# Altium footprint library FK750M1模块-封装库-V1.1.PcbLib: 1 footprints
Each footprint in its own frame and in the unit in brackets; x right, y up, seen from the top. Pads: shape width x height; smd on the part's side, far side on the other; paste and mask are expansions set on the pad; w line width, h text height; cw(c..) or ccw(c..) is an arc to the next point about the centre after c.
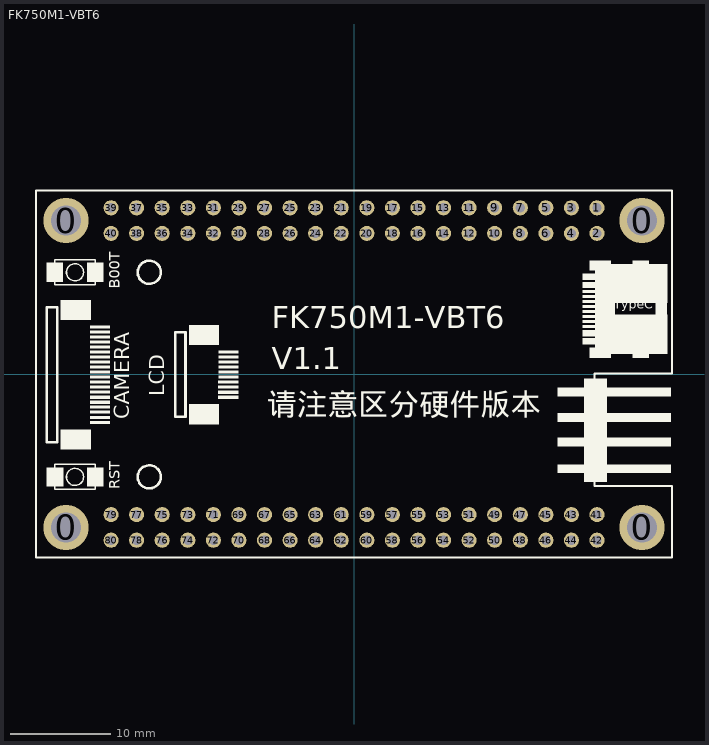
[diagram p0: the footprint, top view; thin cyan lines are the x and y axes]

## FK750M1-VBT6 [mm]
pads (84):
  round 4.5 hole 3: 0(-28.603,-15.24) 0(-28.603,15.24) 0(28.603,-15.24) 0(28.603,15.24)
  round 1.5 hole 0.9: 1(24.13,16.51) 2(24.13,13.97) 3(21.59,16.51) 4(21.59,13.97) 5(19.05,16.51) 6(19.05,13.97) 7(16.51,16.51) 8(16.51,13.97) 9(13.97,16.51) 10(13.97,13.97) 11(11.43,16.51) 12(11.43,13.97) 13(8.89,16.51) 14(8.89,13.97) 15(6.35,16.51) 16(6.35,13.97) 17(3.81,16.51) 18(3.81,13.97) 19(1.27,16.51) 20(1.27,13.97) 21(-1.27,16.51) 22(-1.27,13.97) 23(-3.81,16.51) 24(-3.81,13.97) 25(-6.35,16.51) 26(-6.35,13.97) 27(-8.89,16.51) 28(-8.89,13.97) 29(-11.43,16.51) 30(-11.43,13.97) 31(-13.97,16.51) 32(-13.97,13.97) 33(-16.51,16.51) 34(-16.51,13.97) 35(-19.05,16.51) 36(-19.05,13.97) 37(-21.59,16.51) 38(-21.59,13.97) 39(-24.13,16.51) 40(-24.13,13.97) 41(24.13,-13.97) 42(24.13,-16.51) 43(21.59,-13.97) 44(21.59,-16.51) 45(19.05,-13.97) 46(19.05,-16.51) 47(16.51,-13.97) 48(16.51,-16.51) 49(13.97,-13.97) 50(13.97,-16.51) 51(11.43,-13.97) 52(11.43,-16.51) 53(8.89,-13.97) 54(8.89,-16.51) 55(6.35,-13.97) 56(6.35,-16.51) 57(3.81,-13.97) 58(3.81,-16.51) 59(1.27,-13.97) 60(1.27,-16.51) 61(-1.27,-13.97) 62(-1.27,-16.51) 63(-3.81,-13.97) 64(-3.81,-16.51) 65(-6.35,-13.97) 66(-6.35,-16.51) 67(-8.89,-13.97) 68(-8.89,-16.51) 69(-11.43,-13.97) 70(-11.43,-16.51) 71(-13.97,-13.97) 72(-13.97,-16.51) 73(-16.51,-13.97) 74(-16.51,-16.51) 75(-19.05,-13.97) 76(-19.05,-16.51) 77(-21.59,-13.97) 78(-21.59,-16.51) 79(-24.13,-13.97) 80(-24.13,-16.51)
Top Overlay:
  circle w0.254: c-20.339,-10.219 r1.15
  circle w0.254: c-20.339,10.101 r1.149
  circle w0.15: c-27.709,10.101 r0.85
  circle w0.15: c-27.709,-10.219 r0.85
  rectangle: 20.193,-9.855 31.496,-8.966
  rectangle: 20.193,-7.188 31.496,-6.299
  rectangle: 20.193,-4.775 31.496,-3.886
  rectangle: 20.193,-2.235 31.496,-1.346
  rectangle: 22.86,-10.744 25.146,-0.457
  rectangle: 23.393,10.3 25.527,11.29
  rectangle: 27.648,10.304 29.273,11.29
  rectangle: 23.393,1.613 25.527,2.642
  rectangle: 27.648,1.613 29.273,2.743
  rectangle: 29.934,5.601 31.064,7.353
  rectangle: 23.939,5.728 25.933,7.353
  rectangle: 23.939,1.994 31.153,5.918
  rectangle: 23.927,7.048 31.153,10.935
  rectangle: 22.669,4.547 23.965,4.851
  rectangle: 22.669,5.042 23.965,5.347
  rectangle: 22.669,5.55 23.965,5.855
  rectangle: 22.669,6.045 23.965,6.35
  rectangle: 22.669,6.553 23.965,6.858
  rectangle: 22.669,7.048 23.965,7.353
  rectangle: 22.669,7.544 23.965,7.849
  rectangle: 22.669,8.052 23.965,8.357
  rectangle: 22.669,2.934 24.016,3.556
  rectangle: 22.669,3.734 24.016,4.356
  rectangle: 22.669,8.534 24.016,9.157
  rectangle: 22.669,9.322 24.066,9.957
  rectangle: -30.531,9.144 -28.88,11.049
  rectangle: -26.543,9.144 -24.892,11.049
  rectangle: -29.134,5.385 -26.137,7.366
  rectangle: -29.159,-7.493 -26.137,-5.512
  rectangle: -30.531,-11.176 -28.854,-9.271
  rectangle: -26.543,-11.176 -24.892,-9.271
  rectangle: -16.383,2.896 -13.386,4.877
  rectangle: -16.383,-5.004 -13.386,-2.997
  rectangle: -13.487,-2.464 -11.481,-2.159
  rectangle: -13.491,-1.966 -11.484,-1.661
  rectangle: -13.491,-1.458 -11.484,-1.153
  rectangle: -13.491,-0.95 -11.484,-0.645
  rectangle: -13.473,-0.468 -11.467,-0.163
  rectangle: -13.477,0.03 -11.47,0.335
  rectangle: -13.477,0.538 -11.47,0.843
  rectangle: -13.477,1.046 -11.47,1.351
  rectangle: -13.473,1.538 -11.467,1.843
  rectangle: -13.477,2.037 -11.47,2.341
  rectangle: -26.238,-4.953 -24.232,-4.648
  rectangle: -26.242,-4.455 -24.235,-4.15
  rectangle: -26.242,-3.947 -24.235,-3.642
  rectangle: -26.242,-3.439 -24.235,-3.134
  rectangle: -26.224,-2.957 -24.217,-2.653
  rectangle: -26.228,-2.459 -24.221,-2.154
  rectangle: -26.228,-1.951 -24.221,-1.646
  rectangle: -26.228,-1.443 -24.221,-1.138
  rectangle: -26.224,-0.951 -24.217,-0.646
  rectangle: -26.228,-0.453 -24.221,-0.148
  rectangle: -26.238,0.025 -24.232,0.33
  rectangle: -26.242,0.523 -24.235,0.828
  rectangle: -26.242,1.031 -24.235,1.336
  rectangle: -26.242,1.539 -24.235,1.844
  rectangle: -26.224,2.021 -24.217,2.326
  rectangle: -26.228,2.519 -24.221,2.824
  rectangle: -26.228,3.027 -24.221,3.332
  rectangle: -26.228,3.535 -24.221,3.84
  rectangle: -26.224,4.028 -24.217,4.332
  rectangle: -26.228,4.526 -24.221,4.831
  lines w0.127: -29.709,-11.469 -29.709,-8.969 -25.709,-8.969 -25.709,-11.469 -29.709,-11.469 ; -29.709,8.851 -25.709,8.851 -25.709,11.351 -29.709,11.351 -29.709,8.851
  lines w0.203: -31.603,-18.237 -31.603,18.237 31.598,18.237 31.598,0.038 23.889,0.038 23.889,-11.138 31.598,-11.138 31.598,-18.237 -31.598,-18.237
  lines w0.254: -30.505,-6.76 -30.505,6.64 -29.489,6.64 -29.489,-6.76 -30.505,-6.76 ; -17.755,-4.26 -16.739,-4.26 -16.739,4.14 -17.755,4.14 -17.755,-4.26
  text "V1.1" at -8.179,-0.254 h3.81
  text "请注意区分硬件版本" at -8.687,-4.826 h3.81
  text "FK750M1-VBT6" at -8.179,3.81 h3.81
  text "TypeC" at 25.806,6.184 h1.52
  text "RST" at -22.928,-11.446 h1.78
  text "B00T" at -22.928,8.458 h1.78
  text "CAMERA" at -21.808,-4.504 h2.54
  text "LCD" at -18.357,-2.218 h2.54
3D body "FK750M1-VBT6-V1.1.step": height 13.86, standoff 0.16, extent -31.603,-18.14 31.603,18.14